# Altium integrated library Analog.IntLib: 4 symbols
Pins are listed as number, name and electrical type; pins without a type are passive.

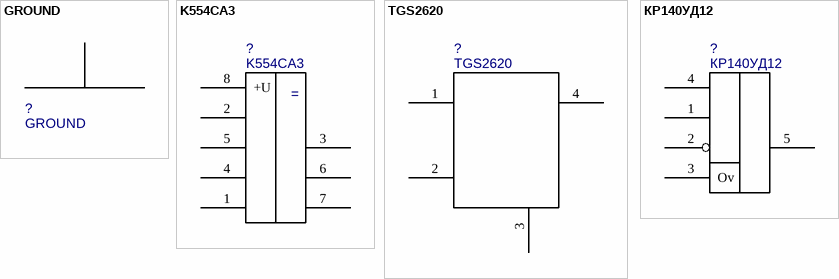
[diagram p0: symbols GROUND to КР140УД12]

## GROUND
designator ?
Value: *
footprint GROUND
pins: 1

## K554CA3
designator ?
Value: *
footprint K554CA3_K554CA3(Primary)
pins: 1, 2, 3, 4 Ov, 5, 6, 7, 8 +U

## TGS2620
designator ?
Value: *
footprint TGS2620
pins: 1, 2, 3, 4

## КР140УД12
designator ?
Value: *
footprint КР140УД12_КР140УД12(Primary)
pins: 1, 2, 3 Ov, 4, 5 +U